# Altium footprint library MJ54&78_Main_V1.3.PcbLib: 53 footprints (part 2 of 4)
Each footprint in its own frame and in the unit in brackets; x right, y up, seen from the top. Pads: shape width x height; smd on the part's side, far side on the other; paste and mask are expansions set on the pad; w line width, h text height; cw(c..) or ccw(c..) is an arc to the next point about the centre after c.
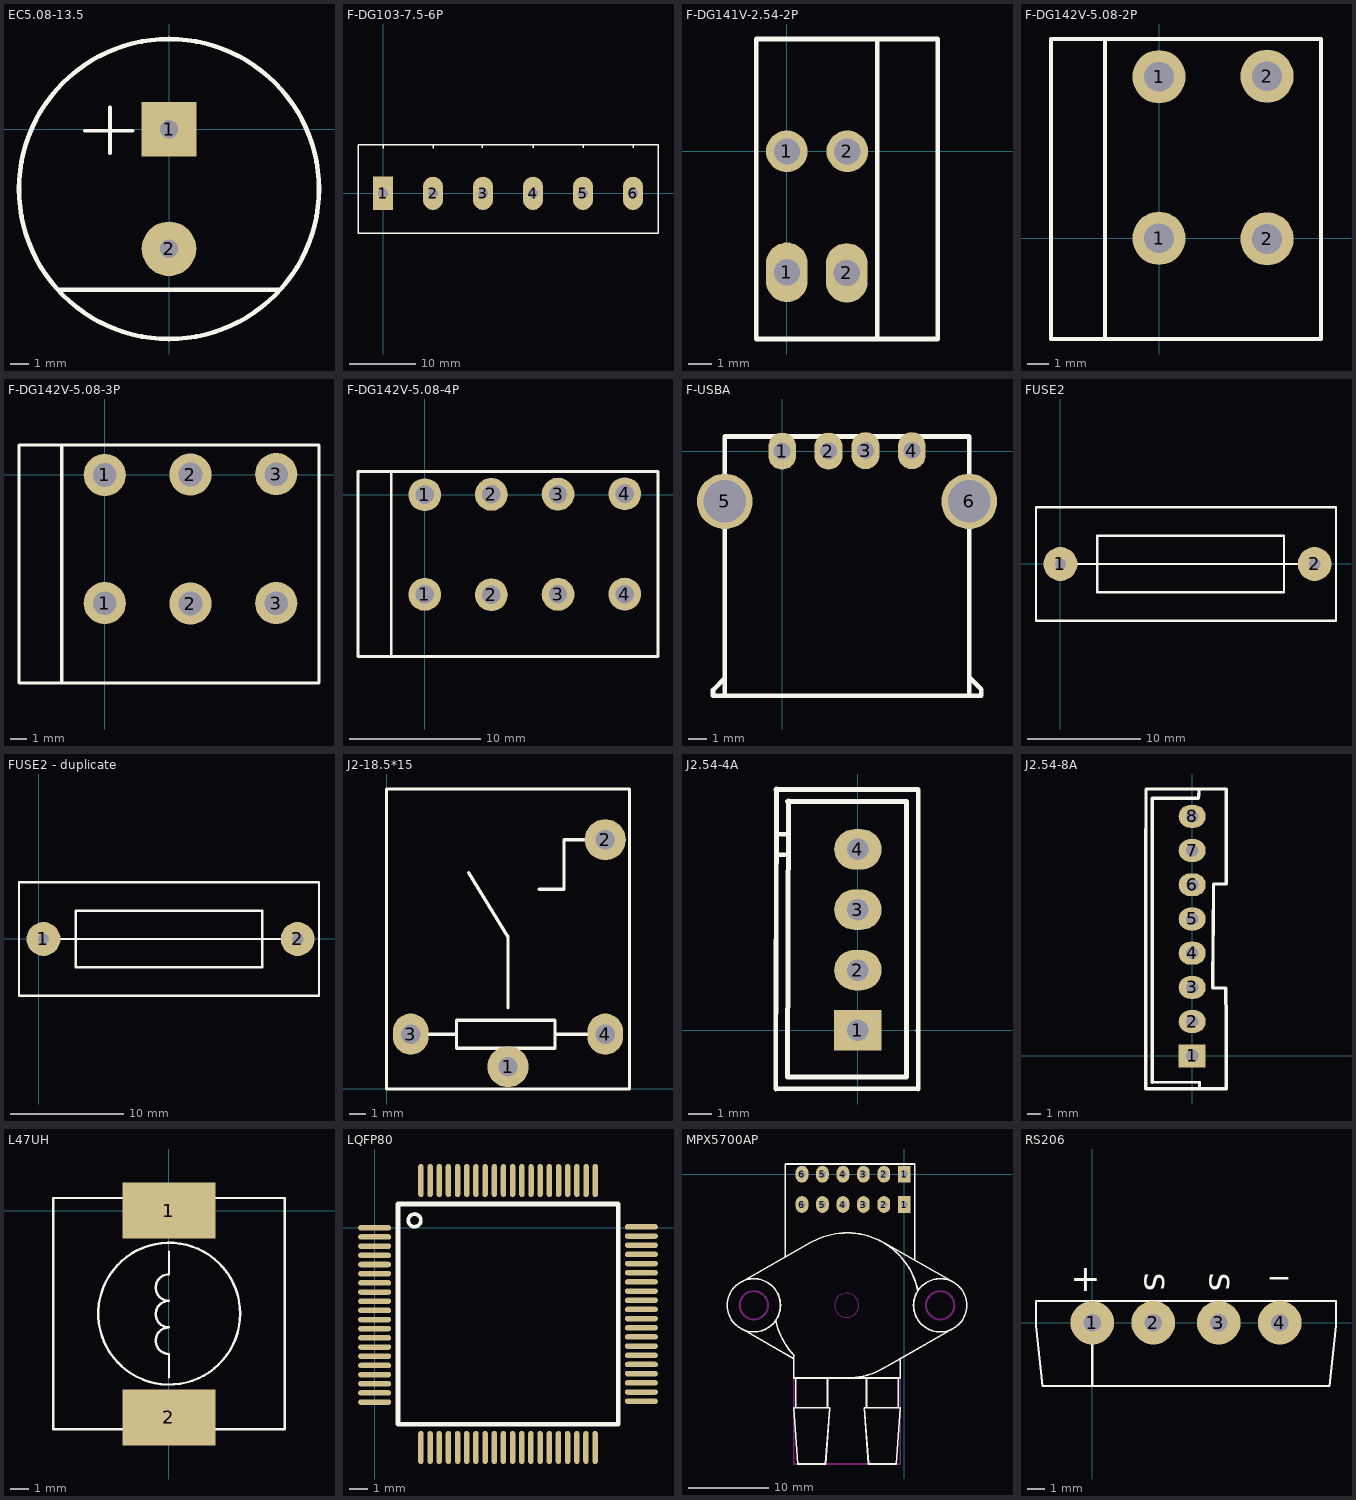
[diagram p1: the footprints below, top view; thin cyan lines are the x and y axes]

## EC5.08-13.5 [mm]
pads (2):
  rect 3x3 hole 1: 1(0,0)
  round 3 hole 1: 2(0,-6.58)
Top Overlay:
  circle w0.254: c0,-3.29 r8.25
  lines w0.203: -4.616,-0.08 -2,-0.08 ; -3.25,-1.33 -3.25,1.21
  lines w0.254: -6,-8.83 6,-8.83

## F-DG103-7.5-6P [mm]
height 0.7
pads (6):
  rect 3x5 hole 1.5: 1(0,0)
  oval 3x5 hole 1.5: 2(7.5,0) 3(15,0) 4(22.5,0) 5(30,0) 6(37.5,0)
Top Overlay:
  lines w0.2: 0.035,6.731 0.035,7.3 ; 7.528,6.731 7.528,7.3 ; 14.894,6.858 14.894,7.3 ; 22.514,6.858 22.514,7.3 ; 30.007,6.858 30.007,7.3 ; 37.5,6.858 37.5,7.3 ; -3.75,-6 -3.75,7.3 41.25,7.3 41.25,-6 -3.75,-6

## F-DG141V-2.54-2P [mm]
height 0.7
pads (4):
  oval 1.75x2.5 hole 1.1: 1(0,-5.08) 2(2.515,-5.105)
  round 1.75 hole 1.1: 1(0,0) 2(2.54,0)
Top Overlay:
  lines w0.2: 3.796,-7.88 3.796,4.72 ; -1.284,-7.88 -1.284,4.72 6.336,4.72 6.336,-7.88 -1.284,-7.88

## F-DG142V-5.08-2P [mm]
height 0.7
pads (4):
  round 2.5 hole 1.4: 1(0,0) 1(0,7.595) 2(5.08,-0.025) 2(5.08,7.62)
Top Overlay:
  lines w0.2: -5.082,9.368 -5.082,-4.732 -2.573,-4.732 -2.542,-4.701 -2.542,9.368 ; -5.061,9.368 -2.542,9.368 ; -2.542,9.368 -2.542,-4.732 7.618,-4.732 7.618,9.368 -2.542,9.368

## F-DG142V-5.08-3P [mm]
height 0.7
pads (6):
  round 2.5 hole 1.4: 1(0,-7.595) 1(0,0) 2(5.08,-7.62) 2(5.08,0.025) 3(10.16,-7.595) 3(10.16,0.051)
Top Overlay:
  lines w0.2: -5.082,1.773 -5.082,-12.327 -2.573,-12.327 -2.542,-12.296 -2.542,1.773 ; -5.061,1.773 -2.542,1.773 ; -2.542,1.773 -2.542,-12.327 12.698,-12.327 12.698,1.773 -2.542,1.773

## F-DG142V-5.08-4P [mm]
height 0.7
pads (8):
  round 2.5 hole 1.4: 1(0,-7.595) 1(0,0) 2(5.08,-7.62) 2(5.08,0.025) 3(10.16,-7.595) 3(10.16,0.051) 4(15.24,-7.569) 4(15.24,0.076)
Top Overlay:
  lines w0.2: -5.082,1.773 -5.082,-12.327 -2.573,-12.327 -2.542,-12.296 -2.542,1.773 ; -5.061,1.773 -2.542,1.773 ; 17.778,-12.327 -2.542,-12.327 -2.542,1.773 ; 17.778,-12.301 17.778,1.773 -2.542,1.773

## F-USBA [mm]
height 0.7
pads (6):
  oval 1.5x2 hole 0.92: 1(0,0) 2(2.5,0) 3(4.5,0.025) 4(7,0.025)
  round 3 hole 2.3: 5(-3.1,-2.71) 6(10.1,-2.71)
Top Overlay:
  lines w0.254: -3.099,-12.235 -3.099,-12.26 -3.735,-12.897 -3.735,-13.2 -3.725,-13.21 -2.338,-13.21 ; 10.1,-12.21 10.743,-12.853 10.743,-13.2 10.733,-13.21 10.1,-13.21 ; 10.1,-13.21 10.1,0.79 -3.099,0.79 -3.099,-13.21 10.1,-13.21

## FUSE2 [mm]
pads (2):
  round 3 hole 1: 1(0,0) 2(22.45,0)
Top Overlay:
  lines w0.203: 0,0 23,0 ; -2.161,-5 -2.161,5 24.339,5 24.339,-5 -2.161,-5 ; 3.25,-2.5 3.25,2.5 19.75,2.5 19.75,-2.5 3.25,-2.5

## FUSE2 - duplicate [mm]
pads (2):
  round 3 hole 1: 1(0.411,0) 2(22.861,0)
Top Overlay:
  lines w0.203: 0,0 23,0 ; -1.75,-5 -1.75,5 24.75,5 24.75,-5 -1.75,-5 ; 3.25,-2.5 19.75,-2.5 19.75,2.5 3.25,2.5 3.25,-2.5

## J2-18.5*15 [mm]
pads (4):
  round 2.54 hole 1.2: 1(7.485,1.364) 2(13.479,15.359)
  oval 2.2x2.54 hole 1.2: 3(1.49,3.37) 4(13.479,3.37)
Top Overlay:
  lines w0.203: 1.49,3.37 4.31,3.37 ; 5.046,13.327 7.485,9.365 ; 7.485,4.996 7.485,9.415 ; 9.415,12.311 10.939,12.311 10.939,15.359 13.479,15.359 ; 10.38,3.37 13.479,3.37 ; 4.31,3.37 4.31,2.507 10.38,2.507 10.38,4.234 4.31,4.234 4.31,3.37 ; -0.008,-0.008 14.978,-0.008 14.978,18.483 -0.008,18.483 -0.008,-0.008

## J2.54-4A [mm]
pads (4):
  rect 2x1.7 hole 0.9: 1(0,0)
  oval 2x1.7 hole 0.9: 2(0,2.54) 3(0,5.08) 4(0,7.62)
Top Overlay:
  lines w0.203: -3.46,10.135 2.54,10.135 2.54,7.677 2.54,5.842 ; -3.429,7.391 -2.929,7.391 ; -3.429,8.255 -2.929,8.255 ; -3.429,10.16 -3.46,-2.465 -3.45,-2.455 ; -3.175,-2.455 -3.45,-2.455 ; -3.175,10.132 -3.46,10.132 0.54,10.132 1.54,10.132 2.54,10.132 2.54,8.297 ; -2.96,9.632 1.575,9.632 ; -2.921,9.652 -2.96,-1.955 0.661,-1.955 ; -2.79,-1.956 2.04,-1.956 2.04,5.207 ; 0.54,0 0.54,0.5 ; 0.54,7.177 0.54,7.677 ; 0.661,-2.455 2.04,-2.455 2.53,-2.455 2.54,-2.465 ; 0.686,-2.455 -3.45,-2.455 ; 1.54,9.632 2.04,9.632 2.04,5.145 ; 2.53,0 2.54,-0.01 ; 2.54,3.175 2.54,-0.635 2.54,-2.465 ; 2.54,5.01 2.54,-2.465 ; 2.54,5.63 2.54,1.82 2.54,-0.01 ; 2.54,7.465 2.54,-0.01

## J2.54-8A [mm]
pads (8):
  rect 2x1.7 hole 0.9: 1(0,0)
  oval 2x1.7 hole 0.9: 2(0,2.54) 3(0,5.08) 4(0,7.62) 5(0,10.16) 6(0,12.7) 7(0,15.24) 8(0,17.78)
Top Overlay:
  lines w0.203: -3.429,10.16 -3.46,-2.465 -3.45,-2.455 ; -3.175,-2.455 -3.45,-2.455 ; -2.921,9.652 -2.96,-1.955 0.54,-1.955 0.54,-2.455 ; 0.54,0 0.54,0.5 ; 0.54,7.177 0.54,7.677 ; 0.54,9.632 0.54,10.132 ; 1.524,5.08 1.54,5.037 ; 2.53,0 2.54,-0.01 2.54,1.82 ; 2.54,-0.635 2.54,-2.465 2.53,-2.455 2.04,-2.455 0.54,-2.455 ; -3.45,-2.455 0.54,-2.455
  lines w0.254: -3.46,-2.465 -3.45,-2.455 ; -2.96,-1.955 -2.96,19.138 0.469,19.138 0.508,19.812 0.508,19.304 ; -3.45,-2.455 2.53,-2.455 2.54,-2.445 2.54,2.54 2.497,5.037 1.54,5.037 1.524,5.08 1.581,12.757 2.54,12.757 2.54,19.812 -3.429,19.812 -3.45,13.949 -3.45,-2.455

## L47UH [mm]
pads (2):
  rect 5x3 smd: 1(0,0) 2(0,-11.074)
Top Overlay:
  circle w0.127: c0.01,-5.519 r3.8
  lines w0.127: 0,-8.923 0,-7.678 cw(c0,-6.967) 0,-6.256 cw(c0,-5.544) 0,-4.833 cw(c0,-4.122) 0,-3.411 0,-2.192 ; -6.2,-11.719 6.2,-11.719 6.2,0.681 -6.2,0.681 -6.2,-11.719

## LQFP80 [mm]
pads (80):
  oval 1.8x0.3 smd: 1(0,0) 2(0,-0.5) 3(0,-1) 4(0,-1.5) 5(0,-2) 6(0,-2.5) 7(0,-3) 8(0,-3.5) 9(0,-4) 10(0,-4.5) 11(0,-5) 12(0,-5.5) 13(0,-6) 14(0,-6.5) 15(0,-7) 16(0,-7.5) 17(0,-8) 18(0,-8.5) 19(0,-8.999) 20(0,-9.499) 41(14.536,-9.449) 42(14.536,-8.949) 43(14.536,-8.449) 44(14.536,-7.949) 45(14.536,-7.449) 46(14.536,-6.949) 47(14.536,-6.449) 48(14.536,-5.949) 49(14.536,-5.449) 50(14.536,-4.949) 51(14.536,-4.449) 52(14.536,-3.949) 53(14.536,-3.449) 54(14.536,-2.949) 55(14.536,-2.449) 56(14.536,-1.949) 57(14.536,-1.449) 58(14.536,-0.949) 59(14.536,-0.449) 60(14.536,0.051)
  oval 0.3x1.8 smd: 21(2.518,-11.972) 22(3.018,-11.972) 23(3.518,-11.972) 24(4.018,-11.972) 25(4.518,-11.972) 26(5.018,-11.972) 27(5.518,-11.972) 28(6.018,-11.972) 29(6.518,-11.972) 30(7.018,-11.972) 31(7.518,-11.972) 32(8.018,-11.972) 33(8.518,-11.972) 34(9.018,-11.972) 35(9.518,-11.972) 36(10.018,-11.972) 37(10.518,-11.972) 38(11.018,-11.972) 39(11.518,-11.972) 40(12.018,-11.972) 61(12.022,2.578) 62(11.522,2.578) 63(11.022,2.578) 64(10.522,2.578) 65(10.022,2.578) 66(9.522,2.578) 67(9.022,2.578) 68(8.522,2.578) 69(8.022,2.578) 70(7.522,2.578) 71(7.022,2.578) 72(6.522,2.578) 73(6.022,2.578) 74(5.522,2.578) 75(5.022,2.578) 76(4.522,2.578) 77(4.022,2.578) 78(3.522,2.578) 79(3.022,2.578) 80(2.522,2.578)
Top Overlay:
  circle w0.203: c2.173,0.404 r0.344
  lines w0.254: 1.27,-10.7 13.27,-10.7 13.27,1.3 1.27,1.3 1.27,-10.7

## MPX5700AP [mil]
height 27.56
pads (12):
  rect 62x82 hole 35: 1(0,-147.87) 1(0,0)
  oval 62x82 hole 35: 2(-100,-147.87) 2(-100,0) 3(-200,-147.87) 3(-200,0) 4(-300,-147.87) 4(-300,0) 5(-400,-147.87) 5(-400,0) 6(-500,-147.87) 6(-500,0)
Top Overlay:
  circle w8: c175,-640 r130
  circle w8: c-735,-640 r130
  circle w8: c-735.18,-639.95 r130
  circle w8: c174.82,-639.95 r130
  lines w8: -810.18,-534.95 -460.18,-334.95 -414.53,-312.85 cw(c-280.18,-639.95) 66.38,-569.63 ; -810,-535 -460,-335 -414.35,-312.89 cw(c-280,-640) 66.56,-569.68 ; -785.18,-759.95 -540.18,-899.95 ; -785,-760 -540,-900 ; -627.9,-715.55 ccw(c-280.18,-639.95) -539.16,-883.99 ; -627.72,-715.59 ccw(c-280,-640) -538.98,-884.04 ; -581,-404 -581,49 -580,50 -550,50 50,50 50,-50 50,-419 ; -540.18,-884.95 -540.18,-899.95 ; -540,-885 -540,-900 ; -530.18,-994.95 -530.18,-1139.95 ; -530,-995 -530,-1140 ; -375.18,-994.95 -375.18,-999.95 -375.18,-1139.95 ; -375,-995 -375,-1000 -375,-1140 ; -280.18,-995.09 ccw(c-280.18,-639.95) -85.55,-937.01 -20.18,-899.95 ; -280,-995.14 ccw(c-280,-640) -85.37,-937.06 -20,-900 235,-755 ; -280,-995 -540,-995 -540,-900 ; -185.18,-994.95 -185.18,-1139.95 ; -100.18,-334.95 244.82,-529.95 ; -100,-335 245,-530 ; -30.18,-994.95 -30.18,-1139.95 ; 234.82,-754.95 -20.18,-899.95 ; -540.18,-899.95 -540.18,-994.95 -280.18,-994.95 -20.18,-994.95 -20.18,-899.95 ; -530.18,-1139.95 -375.18,-1139.95 ; -530.18,-1139.95 -540.18,-1139.95 -520.18,-1414.95 -385.18,-1414.95 -365.18,-1139.95 -375.18,-1139.95 ; -530,-1140 -540,-1140 -520,-1415 -385,-1415 -365,-1140 -375,-1140 ; -530,-1140 -375,-1140 ; -185.18,-1139.95 -30.18,-1139.95 ; -185.18,-1139.95 -195.18,-1139.95 -175.18,-1414.95 -40.18,-1414.95 -20.18,-1139.95 -30.18,-1139.95
Top Paste:
  lines w5: -580,-380 -580,-155
Keep-Out Layer:
  circle w10: c-735,-640 r68.9
  circle w10: c175,-640 r68.9
  circle w5: c-281.64,-640.19 r59.05
  circle w5: c175.06,-640.19 r68.9
  circle w5: c-735.18,-639.95 r68.89
  lines w8: -540,-1415 -20,-1415 -20,-995 -540,-995 -540,-1415

## RS206 [mil]
pads (4):
  round 100 hole 40: 1(0,0) 2(140,0) 3(290,0) 4(430,0)
Top Overlay:
  lines w5: -129,-8 -129,50 -70,50 500,50 559,50 559,-7 544,-145 485,-145 -30,-145 -55,-145 -113,-145 ; -129,-7 -114,-145 ; 0,-145 0,50
  text "_" at 450,85 h60
  text "+" at 20,125 h60
  text "s" at 270,115 h60
  text "s" at 120,115 h60